# Altium footprint library PcbLib1.PcbLib: 13 footprints
Each footprint in its own frame and in the unit in brackets; x right, y up, seen from the top. Pads: shape width x height; smd on the part's side, far side on the other; paste and mask are expansions set on the pad; w line width, h text height; cw(c..) or ccw(c..) is an arc to the next point about the centre after c.
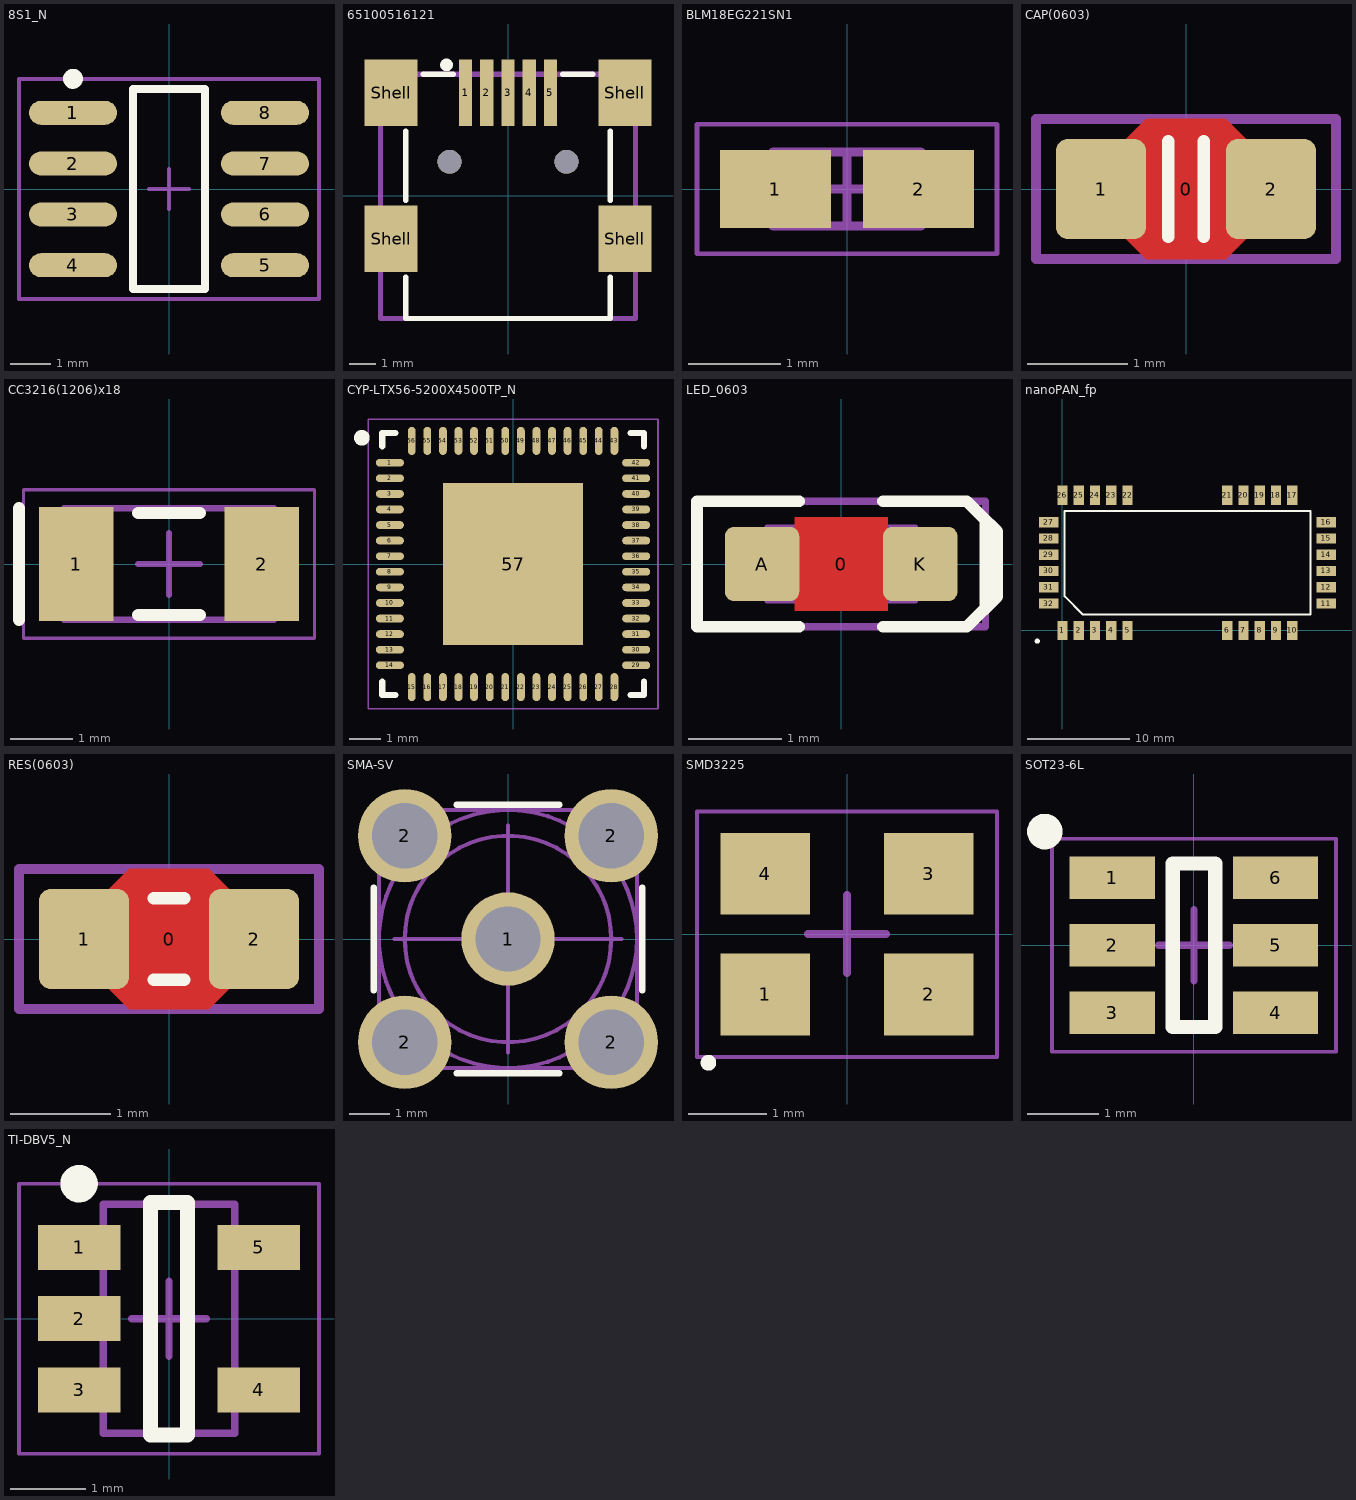
[diagram p0: the footprints below, top view; thin cyan lines are the x and y axes]

## 8S1_N [mm] "SOIC, 8-Leads, Body 4.9x3.9mm, Pitch 1.27mm, IPC Medium Density"
height 1.75
pads (8):
  oval 2.2x0.6 smd: 1(-2.4,1.905) 2(-2.4,0.635) 3(-2.4,-0.635) 4(-2.4,-1.905) 5(2.4,-1.905) 6(2.4,-0.635) 7(2.4,0.635) 8(2.4,1.905)
Top Overlay:
  circle w0.25: c-2.4,2.755 r0.125
  lines w0.2: -0.9,-2.5 0.9,-2.5 0.9,2.5 -0.9,2.5 -0.9,-2.5
Mechanical 15:
  lines w0.1: -0.5,0 0.5,0 ; 0,-0.5 0,0.5 ; -3.75,-2.75 3.75,-2.75 3.75,2.75 -3.75,2.75 -3.75,-2.75
3D body "SOIC_N-R8.STP": height 1.75, standoff 0, extent -3.1,-2.5 3.1,2.5

## 65100516121 [mm] "Mini USB 2.0 Type B SMT Horizontal 5 Contacts"
height 3.9
pads (11):
  rect 0.5x2.5 smd: 1(-1.6,3.875) 2(-0.8,3.875) 3(0,3.875) 4(0.8,3.875) 5(1.6,3.875)
  rect 2x2.5 smd: Shell(-4.4,-1.625) Shell(-4.4,3.875) Shell(4.4,-1.625) Shell(4.4,3.875)
  round 0.9 hole 0.9 unplated: ""(-2.2,1.275) ""(2.2,1.275)
Top Overlay:
  circle w0.25: c-2.314,4.925 r0.114
  lines w0.2: -3.85,-3.075 -3.85,-4.625 3.85,-4.625 3.85,-3.075 ; -3.85,-0.175 -3.85,2.425 ; -3.2,4.575 -2.05,4.575 ; 2.05,4.575 3.2,4.575 ; 3.85,-0.175 3.85,2.425
Mechanical 13:
  lines w0.2: -4.8,-4.625 -4.8,4.575 4.8,4.575 4.8,-4.625 -4.8,-4.625
3D body "65100516121.stp": height 3.92, standoff -0.98, extent -4.8,-4.625 4.8,4.625

## BLM18EG221SN1 [mm] "Molded Inductor, 2-Leads, Body 1,60x0,80mm, IPC Medium Density"
height 0.8
pads (2):
  rect 1.2x0.85 smd: 1(-0.775,0) 2(0.775,0)
Mechanical 13:
  lines w0.1: -0.8,-0.4 0.8,-0.4 0.8,0.4 -0.8,0.4 -0.8,-0.4
Mechanical 15:
  lines w0.05: -1.625,-0.7 1.625,-0.7 1.625,0.7 -1.625,0.7 -1.625,-0.7
  lines w0.1: -0.4,0 0.4,0 ; 0,-0.4 0,0.4
3D body: height 0.8, standoff 0, extent -0.8,-0.4 0.8,0.4

## CAP(0603) [mm]
height 0.5
pads (3):
  round 0.254 on Mech15: 0(0,0)
  rrect25% 0.9x1 smd: 1(-0.85,0) 2(0.85,0)
Top Layer:
  pour cut-out: -0.6,0.5 -0.4,0.7 0.4,0.7 0.6,0.5 0.6,-0.5 0.4,-0.7 -0.4,-0.7 -0.6,-0.5
Top Overlay:
  lines w0.127: -0.178,-0.476 -0.178,0.476 ; 0.178,-0.476 0.178,0.476
Mechanical 13:
  lines w0.05: -0.55,-0.43 0.55,-0.43 ; -0.55,0.43 0.55,0.43 ; -0.85,-0.45 -0.85,0.45 -0.55,0.45 -0.55,-0.45 -0.85,-0.45 ; 0.55,-0.45 0.55,0.45 0.85,0.45 0.85,-0.45 0.55,-0.45
Mechanical 15:
  lines w0.1: -1.5,-0.7 -1.5,0.7 1.5,0.7 1.5,-0.7 -1.5,-0.7
3D body: height 0.5, standoff 0, extent 0.6,-0.45 0.9,0.45
3D body: height 0.5, standoff 0, extent -0.9,-0.45 -0.6,0.45
3D body: height 0.5, standoff 0, extent -0.6,-0.45 0.6,0.45

## CC3216(1206)x18 [mm]
pads (2):
  rect 1.2x1.85 smd: 1(-1.5,0) 2(1.5,0)
Top Overlay:
  lines w0.2: -2.425,-0.9 -2.425,0.9 ; -0.5,-0.825 0.5,-0.825 ; -0.5,0.825 0.5,0.825
Mechanical 13:
  lines w0.1: -1.7,-0.9 1.7,-0.9 1.7,0.9 -1.7,0.9 -1.7,-0.9
Mechanical 15:
  lines w0.05: -2.35,-1.2 2.35,-1.2 2.35,1.2 -2.35,1.2 -2.35,-1.2
  lines w0.1: -0.5,0 0.5,0 ; 0,-0.5 0,0.5
3D body: height 1.6, standoff 0, extent -1.7,-0.9 -1.2,0.9
3D body: height 1.6, standoff 0, extent -1.2,-0.9 1.7,0.9

## CYP-LTX56-5200X4500TP_N [mm] "QFN, 56-Leads, Body 8.1x8.1mm, Pitch 0.5mm, Thermal Pad 5.2x4.5mm, IPC Medium Density"
height 1
pads (57):
  oval 0.9x0.25 smd: 1(-3.95,3.25) 2(-3.95,2.75) 3(-3.95,2.25) 4(-3.95,1.75) 5(-3.95,1.25) 6(-3.95,0.75) 7(-3.95,0.25) 8(-3.95,-0.25) 9(-3.95,-0.75) 10(-3.95,-1.25) 11(-3.95,-1.75) 12(-3.95,-2.25) 13(-3.95,-2.75) 14(-3.95,-3.25) 29(3.95,-3.25) 30(3.95,-2.75) 31(3.95,-2.25) 32(3.95,-1.75) 33(3.95,-1.25) 34(3.95,-0.75) 35(3.95,-0.25) 36(3.95,0.25) 37(3.95,0.75) 38(3.95,1.25) 39(3.95,1.75) 40(3.95,2.25) 41(3.95,2.75) 42(3.95,3.25)
  oval 0.25x0.9 smd: 15(-3.25,-3.95) 16(-2.75,-3.95) 17(-2.25,-3.95) 18(-1.75,-3.95) 19(-1.25,-3.95) 20(-0.75,-3.95) 21(-0.25,-3.95) 22(0.25,-3.95) 23(0.75,-3.95) 24(1.25,-3.95) 25(1.75,-3.95) 26(2.25,-3.95) 27(2.75,-3.95) 28(3.25,-3.95) 43(3.25,3.95) 44(2.75,3.95) 45(2.25,3.95) 46(1.75,3.95) 47(1.25,3.95) 48(0.75,3.95) 49(0.25,3.95) 50(-0.25,3.95) 51(-0.75,3.95) 52(-1.25,3.95) 53(-1.75,3.95) 54(-2.25,3.95) 55(-2.75,3.95) 56(-3.25,3.95)
  rect 4.5x5.2 smd: 57(0,0)
Top Overlay:
  circle w0.25: c-4.85,4.05 r0.125
  lines w0.2: -4.2,-3.775 -4.2,-4.2 -3.775,-4.2 ; -4.2,3.775 -4.2,4.2 -3.775,4.2 ; 3.775,-4.2 4.2,-4.2 4.2,-3.775 ; 3.775,4.2 4.2,4.2 4.2,3.775
Mechanical 15:
  lines w0.05: -4.65,-4.65 4.65,-4.65 4.65,4.65 -4.65,4.65 -4.65,-4.65
  lines w0.1: -0.5,0 0.5,0 ; 0,-0.5 0,0.5
3D body "QFN56_0_5.STP": height 0.95, standoff 0, extent -4,-4 4,4

## LED_0603 [mm] "Molded Diode, 2-Leads, Body 1,60x0,80mm, IPC Medium Density"
height 0.6
pads (3):
  round 0.254 on Mech15: 0(0,0)
  rrect25% 0.8x0.8 smd: A(-0.85,0) K(0.85,0)
Top Layer:
  pour cut-out: -0.5,0.5 0.5,0.5 0.5,-0.5 -0.5,-0.5
Top Overlay:
  lines w0.127: -0.45,-0.675 -1.55,-0.675 -1.55,0.675 -0.45,0.675 ; 0.45,-0.675 1.35,-0.675 1.55,-0.475 1.55,0.475 1.35,0.675 0.45,0.675 ; 1.5,0.525 1.675,0.35 1.675,-0.35 1.525,-0.5
Mechanical 13:
  lines w0.05: -0.6,-0.4 -0.6,0.399 0.6,0.4 0.6,-0.4 -0.6,-0.399 ; -0.505,-0.398 -0.505,0.398 ; -0.5,-0.4 -0.8,-0.4 -0.8,0.4 -0.5,0.4 ; 0.5,-0.4 0.8,-0.4 0.8,0.4 0.5,0.4 ; 0.505,-0.398 0.505,0.398 ; -0.599,-0.398 0.599,-0.398 0.599,0.398 -0.599,0.398 -0.599,-0.398
Mechanical 15:
  lines w0.076: -1.55,-0.675 1.55,-0.675 1.55,0.675 -1.55,0.675 -1.55,-0.675
3D body "LED 0603 APT1608 BLUE.STEP": height 0.75, standoff 0, extent -0.8,-0.4 0.8,0.4

## nanoPAN_fp [mm]
pads (32):
  rect 1x1.9 smd: 1(0,0) 2(1.6,0) 3(3.2,0) 4(4.8,0) 5(6.4,0) 6(16.2,0) 7(17.8,0) 8(19.4,0) 9(21,0) 10(22.6,0) 17(22.6,13.3) 18(21,13.3) 19(19.4,13.3) 20(17.8,13.3) 21(16.2,13.3) 22(6.4,13.3) 23(4.8,13.3) 24(3.2,13.3) 25(1.6,13.3) 26(0,13.3)
  rect 1.9x1 smd: 11(25.95,2.65) 12(25.95,4.25) 13(25.95,5.85) 14(25.95,7.45) 15(25.95,9.05) 16(25.95,10.65) 27(-1.35,10.65) 28(-1.35,9.05) 29(-1.35,7.45) 30(-1.35,5.85) 31(-1.35,4.25) 32(-1.35,2.65)
Top Overlay:
  circle w0.25: c-2.475,-1.05 r0.125
  lines w0.2: 0.225,3.35 2.025,1.55 24.375,1.55 24.375,11.75 0.225,11.75 0.225,3.35
3D body: height 0.8, standoff 0, extent -2.222,-0.85 26.822,14.15
3D body: height 3, standoff 0.8, extent -1.95,-0.6 26.55,13.9

## RES(0603) [mm] "Res 0603"
height 0.5
pads (3):
  round 0.254 on Mech15: 0(0,0)
  rrect25% 0.9x1 smd: 1(-0.85,0) 2(0.85,0)
Top Layer:
  pour cut-out: -0.6,0.5 -0.4,0.7 0.4,0.7 0.6,0.5 0.6,-0.5 0.4,-0.7 -0.4,-0.7 -0.6,-0.5
Top Overlay:
  lines w0.127: -0.152,-0.406 0.152,-0.406 ; -0.152,0.406 0.152,0.406
Mechanical 13:
  lines w0.05: -0.875,-0.475 -0.875,0.475 -0.475,0.475 -0.475,-0.475 -0.875,-0.475 ; -0.475,-0.474 0.475,-0.474 -0.475,-0.474 ; -0.475,0.474 0.475,0.474 -0.475,0.474 ; 0.475,-0.475 0.875,-0.475 0.875,0.475 0.475,0.475 0.475,-0.475
Mechanical 15:
  lines w0.1: -1.5,-0.7 1.5,-0.7 1.5,0.7 -1.5,0.7 -1.5,-0.7
3D body: height 0.5, standoff 0, extent 0.6,-0.475 0.9,0.475
3D body: height 0.5, standoff 0, extent -0.9,-0.475 -0.6,0.475
3D body: height 0.5, standoff 0, extent -0.6,-0.475 0.6,0.475

## SMA-SV [mm]
height 8.6
pads (5):
  round 2.3 hole 1.6: 1(0,0) 2(-2.54,-2.54) 2(-2.54,2.54) 2(2.54,-2.54) 2(2.54,2.54)
Top Overlay:
  lines w0.15: -3.302,-1.27 -3.302,1.27 ; -1.27,-3.302 1.27,-3.302 ; -1.27,3.302 1.27,3.302 ; 3.302,-1.27 3.302,1.27
Mechanical 5:
  circle w0.1: c0,0 r0.635
  circle w0.1: c0,0 r3.175
  circle w0.1: c0,0 r2.54
  lines w0.1: -2.794,0 2.794,0 ; 0,-2.794 0,2.794 ; -3.175,-3.175 3.175,-3.175 3.175,3.175 -3.175,3.175 -3.175,-3.175
3D body "c-1053354-01-a-3d.stp": height 9.5, standoff -4.01, extent -3.175,-3.175 3.175,3.175

## SMD3225 [mm] "DFN, 4-Leads, Body 2,50x3,20mm, Pitch 2,10mm, IPC Medium Density"
height 0.9
pads (4):
  rect 1.15x1.05 smd: 1(-1.05,-0.775) 2(1.05,-0.775) 3(1.05,0.775) 4(-1.05,0.775)
Top Overlay:
  circle w0.1: c-1.778,-1.651 r0.05
Mechanical 15:
  lines w0.05: -1.925,-1.575 1.925,-1.575 1.925,1.575 -1.925,1.575 -1.925,-1.575
  lines w0.1: -0.5,0 0.5,0 ; 0,-0.5 0,0.5
3D body "SMD3225.STP": height 0.61, standoff 0, extent -1.6,-1.25 1.6,1.25

## SOT23-6L [mm] "SOT23-6L"
height 1.45
pads (6):
  rect 1.2x0.6 smd: 1(-1.15,0.95) 2(-1.15,0) 3(-1.15,-0.95) 4(1.15,-0.95) 5(1.15,0) 6(1.15,0.95)
Top Overlay:
  circle w0.25: c-2.1,1.6 r0.125
  lines w0.2: -0.3,-1.15 0.3,-1.15 0.3,1.15 -0.3,1.15 -0.3,-1.15
Mechanical 15:
  lines w0.05: -2,-1.5 -2,1.5 2,1.5 2,-1.5 -2,-1.5
  lines w0.1: -0.5,0 0.5,0 ; 0,-0.5 0,0.5
3D body "SOT-23-6L.stp": height 1.4, standoff 0, extent -1.508,-1.527 1.492,1.521

## TI-DBV5_N [mm] "SOT23, 5-Leads, Body 2.9x1.6mm, Pitch 0.95mm, IPC Medium Density"
height 1.45
pads (5):
  rect 1.1x0.6 smd: 1(-1.2,0.95) 2(-1.2,0) 3(-1.2,-0.95) 4(1.2,-0.95) 5(1.2,0.95)
Top Overlay:
  circle w0.25: c-1.2,1.8 r0.125
  lines w0.2: -0.25,-1.55 -0.25,1.55 0.25,1.55 0.25,-1.55 -0.25,-1.55
Mechanical 13:
  lines w0.1: -0.875,-1.525 0.875,-1.525 0.875,1.525 -0.875,1.525 -0.875,-1.525
Mechanical 15:
  lines w0.05: -2,-1.8 2,-1.8 2,1.8 -2,1.8 -2,-1.8
  lines w0.1: -0.5,0 0.5,0 ; 0,-0.5 0,0.5
3D body: height 1.45, standoff 0, extent -0.875,-1.525 0.875,1.525